# Altium footprint library PcbLib1.PcbLib: 14 footprints
Each footprint in its own frame and in the unit in brackets; x right, y up, seen from the top. Pads: shape width x height; smd on the part's side, far side on the other; paste and mask are expansions set on the pad; w line width, h text height; cw(c..) or ccw(c..) is an arc to the next point about the centre after c.
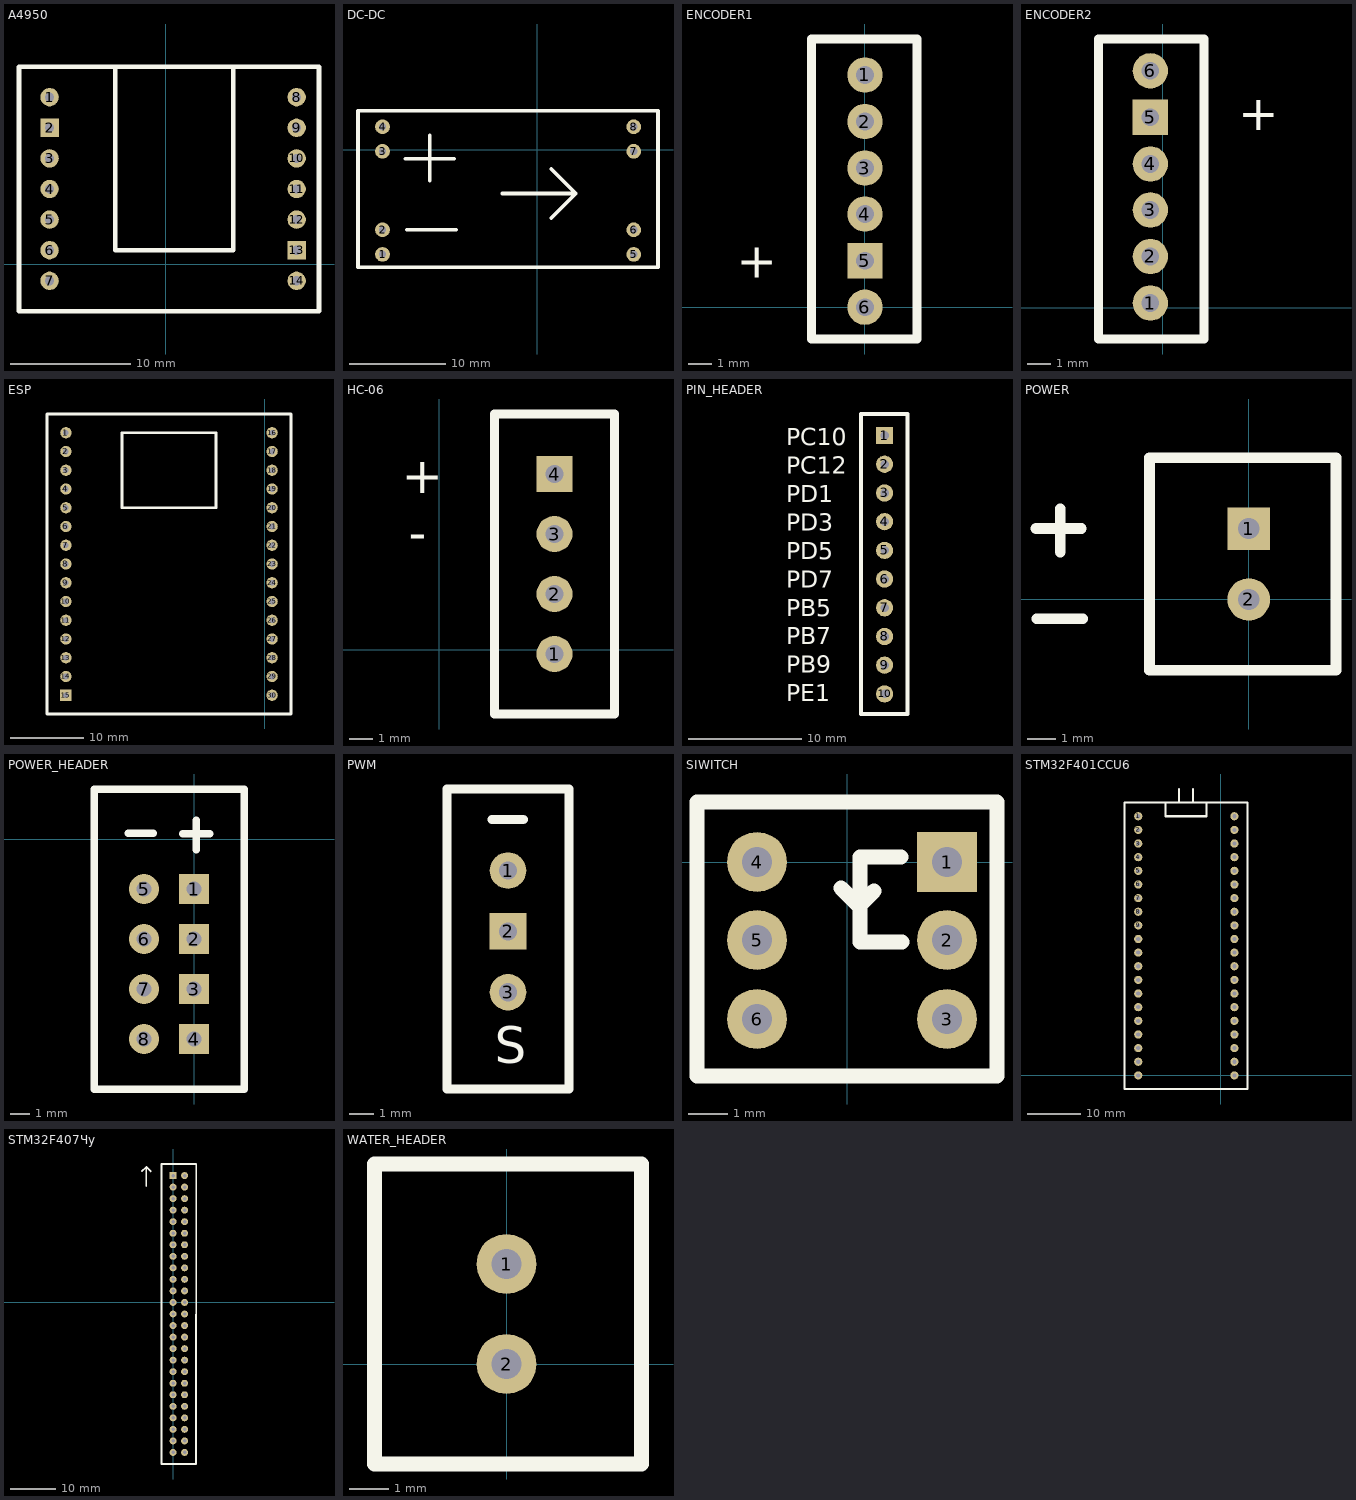
[diagram p0: the footprints below, top view; thin cyan lines are the x and y axes]

## A4950 [mil]
pads (14):
  round 60 hole 30: 1(-380,545) 3(-380,345) 4(-380,245) 5(-380,145) 6(-380,45) 7(-380,-55) 8(427,545) 9(427,445) 10(427,345) 11(427,245) 12(427,145) 14(427,-55)
  rect 60x60 hole 30: 2(-380,445) 13(427,45)
Top Overlay:
  lines w15: -165,645 -165,45 220,45 220,645 ; -480,-155 500,-155 500,645 -480,645 -480,-155

## DC-DC [mil]
pads (8):
  round 60 hole 30: 1(-631,-426) 2(-631,-326) 3(-631,-6) 4(-631,94) 5(393,-426) 6(393,-326) 7(393,-6) 8(393,94)
Top Overlay:
  lines w15: -538,-36 -338,-36 ; -531,-326 -331,-326 ; -438,-126 -438,-106 -438,34 -438,60 ; -143,-178 157,-178 ; 57,-278 157,-178 ; 57,-78 157,-178 ; -731,-479 -731,160 492,160 492,-103 492,-479 -731,-479

## ENCODER1 [mil]
pads (6):
  round 60 hole 30: 1(0,394) 2(0,315) 3(0,236) 4(0,158) 6(0,0)
  rect 60x60 hole 30: 5(0,79)
Top Overlay:
  lines w15: -91,-54 -91,455 88,455 88,-54 -91,-54
  text "+" at -149,50 h60

## ENCODER2 [mil]
pads (6):
  round 60 hole 30: 1(-21,8) 2(-21,87) 3(-21,166) 4(-21,244) 6(-21,402)
  rect 60x60 hole 30: 5(-21,323)
Top Overlay:
  lines w15: -109,-53 70,-53 70,456 -109,456 -109,-53
  text "+" at 128,352 h60

## ESP [mil]
pads (30):
  round 60 hole 30: 1(-1061,2034) 2(-1061,1934) 3(-1061,1834) 4(-1061,1734) 5(-1061,1634) 6(-1061,1534) 7(-1061,1434) 8(-1061,1334) 9(-1061,1234) 10(-1061,1134) 11(-1061,1034) 12(-1061,934) 13(-1061,834) 14(-1061,734) 16(39,2034) 17(39,1934) 18(39,1834) 19(39,1734) 20(39,1634) 21(39,1534) 22(39,1434) 23(39,1334) 24(39,1234) 25(39,1134) 26(39,1034) 27(39,934) 28(39,834) 29(39,734) 30(39,634)
  rect 60x60 hole 30: 15(-1061,634)
Top Overlay:
  lines w15: -1161,534 139,534 139,2134 -1161,2134 -1161,534 ; -761,1634 -761,2034 -261,2034 -261,1634 -761,1634

## HC-06 [mil]
pads (4):
  round 60 hole 30: 1(192,-7) 2(192,93) 3(192,193)
  rect 60x60 hole 30: 4(192,293)
Top Overlay:
  lines w15: 92,-107 292,-107 292,393 92,393 92,-107
  text "+" at -63,261 h60
  text "-" at -51,166 h60

## PIN_HEADER [mil]
pads (10):
  rect 60x60 hole 30: 1(10306,19392)
  round 60 hole 30: 2(10306,19292) 3(10306,19192) 4(10306,19092) 5(10306,18992) 6(10306,18892) 7(10306,18792) 8(10306,18692) 9(10306,18592) 10(10306,18492)
Top Overlay:
  lines w15: 10224,18422 10386,18422 10386,19467 10224,19467 10224,18422
  text "PC10" at 9964,19358 h60
  text "PC12" at 9964,19258.89 h60
  text "PD1" at 9964,19159.78 h60
  text "PD3" at 9964,19060.67 h60
  text "PD5" at 9964,18961.56 h60
  text "PD7" at 9964,18862.44 h60
  text "PB5" at 9964,18763.33 h60
  text "PB9" at 9964,18565.11 h60
  text "PE1" at 9964,18466 h60
  text "PB7" at 9964,18664.22 h60

## POWER [mil]
pads (2):
  rect 60x60 hole 30: 1(0,100)
  round 60 hole 30: 2(0,0)
Top Overlay:
  lines w15: -300,100 -236,100 ; -299,-27 -234,-27 ; -266,67 -266,128 ; -140,-100 -140,200 123,200 123,-100 -140,-100

## POWER_HEADER [mil]
pads (8):
  rect 60x60 hole 30: 1(0,-100) 2(0,-200) 3(0,-300) 4(0,-400)
  round 60 hole 30: 5(-100,-100) 6(-100,-200) 7(-100,-300) 8(-100,-400)
Top Overlay:
  lines w15: -132,12 -82,12 ; -23,11 31,11 ; 4,-21 4,38 ; -200,-500 100,-500 100,100 -200,100 -200,-500

## PWM [mil]
pads (3):
  round 60 hole 30: 1(-700,1500) 3(-700,1300)
  rect 60x60 hole 30: 2(-700,1400)
Top Overlay:
  lines w15: -726,1584 -675,1584 ; -800,1141 -600,1141 -600,1634 -800,1634 -800,1141
  text "S" at -722,1183 h60

## SIWITCH [mil]
pads (6):
  rect 60x60 hole 30: 1(100,0)
  round 60 hole 30: 2(100,-78) 3(100,-157) 4(-90,0) 5(-90,-78) 6(-90,-157)
Top Overlay:
  lines w15: -90,60 90,60 150,60 ; -6,-26 12,-44 27,-29 ; 54,5 13,5 13,-80 55,-80 ; 150,60 -120,60 -150,60 -150,-214 150,-214 150,60

## STM32F401CCU6 [mil]
pads (40):
  round 60 hole 30: 1(-605,1900) 2(-605,1800) 3(-605,1700) 4(-605,1600) 5(-605,1500) 6(-605,1400) 7(-605,1300) 8(-605,1200) 9(-605,1100) 10(-605,1000) 11(-605,900) 12(-605,800) 13(-605,700) 14(-605,600) 15(-605,500) 16(-605,400) 17(-605,300) 18(-605,200) 19(-605,100) 20(-605,0) 21(100,1900) 22(100,1800) 23(100,1700) 24(100,1600) 25(100,1500) 26(100,1400) 27(100,1300) 28(100,1200) 29(100,1100) 30(100,1000) 31(100,900) 32(100,800) 33(100,700) 34(100,600) 35(100,500) 36(100,400) 37(100,300) 38(100,200) 39(100,100) 40(100,0)
Top Overlay:
  lines w15: -405,2000 -405,1900 -105,1900 -105,2000 ; -305,2000 -305,2100 ; -205,2000 -205,2100 ; -705,-100 -705,0 -705,2000 195,2000 195,1900 195,-100 -705,-100

## STM32F407Чу [mil]
pads (50):
  rect 60x60 hole 30: 1(0,1100)
  round 60 hole 30: 2(0,1000) 3(0,900) 4(0,800) 5(0,700) 6(0,600) 7(0,500) 8(0,400) 9(0,300) 10(0,200) 11(0,100) 12(0,0) 13(0,-100) 14(0,-200) 15(0,-300) 16(0,-400) 17(0,-500) 18(0,-600) 19(0,-700) 20(0,-800) 21(0,-900) 22(0,-1000) 23(100,1100) 24(100,1000) 25(100,900) 26(100,800) 27(100,700) 28(100,600) 29(100,500) 30(100,400) 31(100,300) 32(100,200) 33(100,100) 34(100,0) 35(100,-100) 36(100,-200) 37(100,-300) 38(100,-400) 39(100,-500) 40(100,-600) 41(100,-700) 42(100,-800) 43(100,-900) 44(100,-1000) 45(0,-1100) 46(0,-1200) 47(0,-1300) 48(100,-1100) 49(100,-1200) 50(100,-1300)
Top Overlay:
  lines w15: -270,1137 -233,1174 -233,1175 ; -233,1009 -233,1175 ; -194,1136 -233,1175 ; -100,-1400 200,-1400 200,1200 100,1200 -100,1200 -100,-1400

## WATER_HEADER [mil]
pads (2):
  round 60 hole 30: 1(0,100) 2(0,0)
Top Overlay:
  lines w15: -132,-100 -132,200 135,200 135,-100 -132,-100